# EAGLE library part M14X2 (library work)
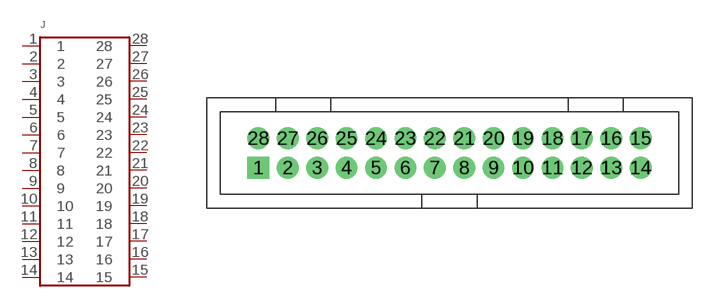
[diagram p45: symbol with the pads of M14X2; footprint M14X2]

Designator prefix J

## M14X2  [M14X2]
1  1
2  2
3  3
4  4
5  5
6  6
7  7
8  8
9  9
10  10
11  11
12  12
13  13
14  14
15  15
16  16
17  17
18  18
19  19
20  20
21  21
22  22
23  23
24  24
25  25
26  26
27  27
28  28

## Footprint M14X2 (pad centres in mm)
drill 1.016 pad 1.88 square: 1 -16.51,-1.27
drill 1.016 pad 1.88: 2 -13.97,-1.27; 3 -11.43,-1.27; 4 -8.89,-1.27; 5 -6.35,-1.27; 6 -3.81,-1.27; 7 -1.27,-1.27; 8 1.27,-1.27; 9 3.81,-1.27; 10 6.35,-1.27; 11 8.89,-1.27; 12 11.43,-1.27; 13 13.97,-1.27; 14 16.51,-1.27; 15 16.51,1.27; 16 13.97,1.27; 17 11.43,1.27; 18 8.89,1.27; 19 6.35,1.27; 20 3.81,1.27; 21 1.27,1.27; 22 -1.27,1.27; 23 -3.81,1.27; 24 -6.35,1.27; 25 -8.89,1.27; 26 -11.43,1.27; 27 -13.97,1.27; 28 -16.51,1.27